# Altium footprint library PCB - RESISTOR - ARRAY - RESCAV80P160X320X70-8N.PCBLIB: 1 footprints
Each footprint in its own frame and in the unit in brackets; x right, y up, seen from the top. Pads: shape width x height; smd on the part's side, far side on the other; paste and mask are expansions set on the pad; w line width, h text height; cw(c..) or ccw(c..) is an arc to the next point about the centre after c.
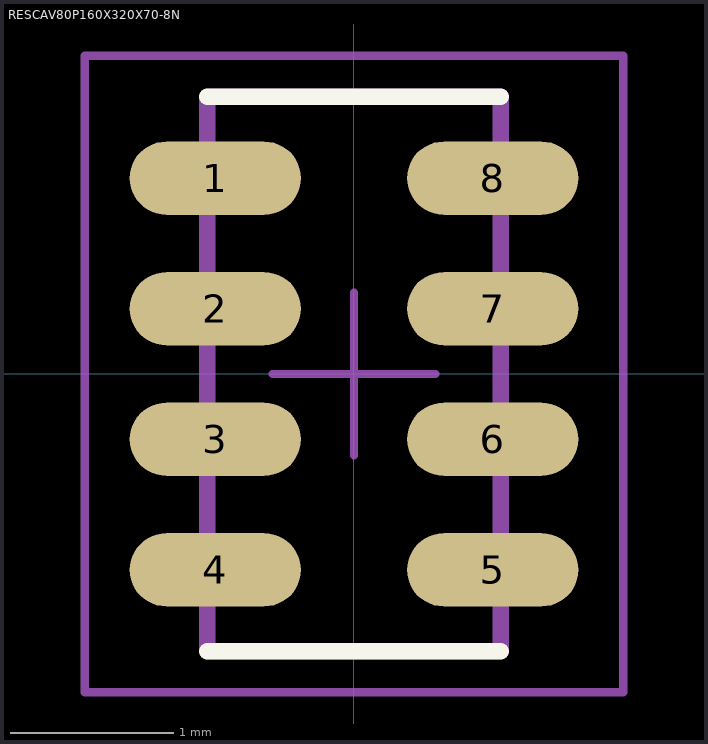
[diagram p0: the footprint, top view; thin cyan lines are the x and y axes]

## RESCAV80P160X320X70-8N [mm]
height 0.7
pads (8):
  oval 1.05x0.45 smd: 1(-0.85,1.2) 2(-0.85,0.4) 3(-0.85,-0.4) 4(-0.85,-1.2) 5(0.85,-1.2) 6(0.85,-0.4) 7(0.85,0.4) 8(0.85,1.2)
Top Overlay:
  lines w0.1: -0.9,-1.7 0.9,-1.7 ; -0.9,1.7 0.9,1.7
Top Assembly:
  lines w0.1: -0.9,-1.7 0.9,-1.7 0.9,1.7 -0.9,1.7 -0.9,-1.7
Top Courtyard:
  lines w0.05: -1.65,-1.95 1.65,-1.95 1.65,1.95 -1.65,1.95 -1.65,-1.95
Top Designator:
  text ".Designator" at 0.5,-1.4 h1
Top Component Center:
  lines w0.05: -0.5,0 0.5,0 ; 0,-0.5 0,0.5
3D body: height 0.7, standoff 0, extent -0.95,-1.75 0.95,1.75